# Altium footprint library PcbLib1.PcbLib: 14 footprints
Each footprint in its own frame and in the unit in brackets; x right, y up, seen from the top. Pads: shape width x height; smd on the part's side, far side on the other; paste and mask are expansions set on the pad; w line width, h text height; cw(c..) or ccw(c..) is an arc to the next point about the centre after c.
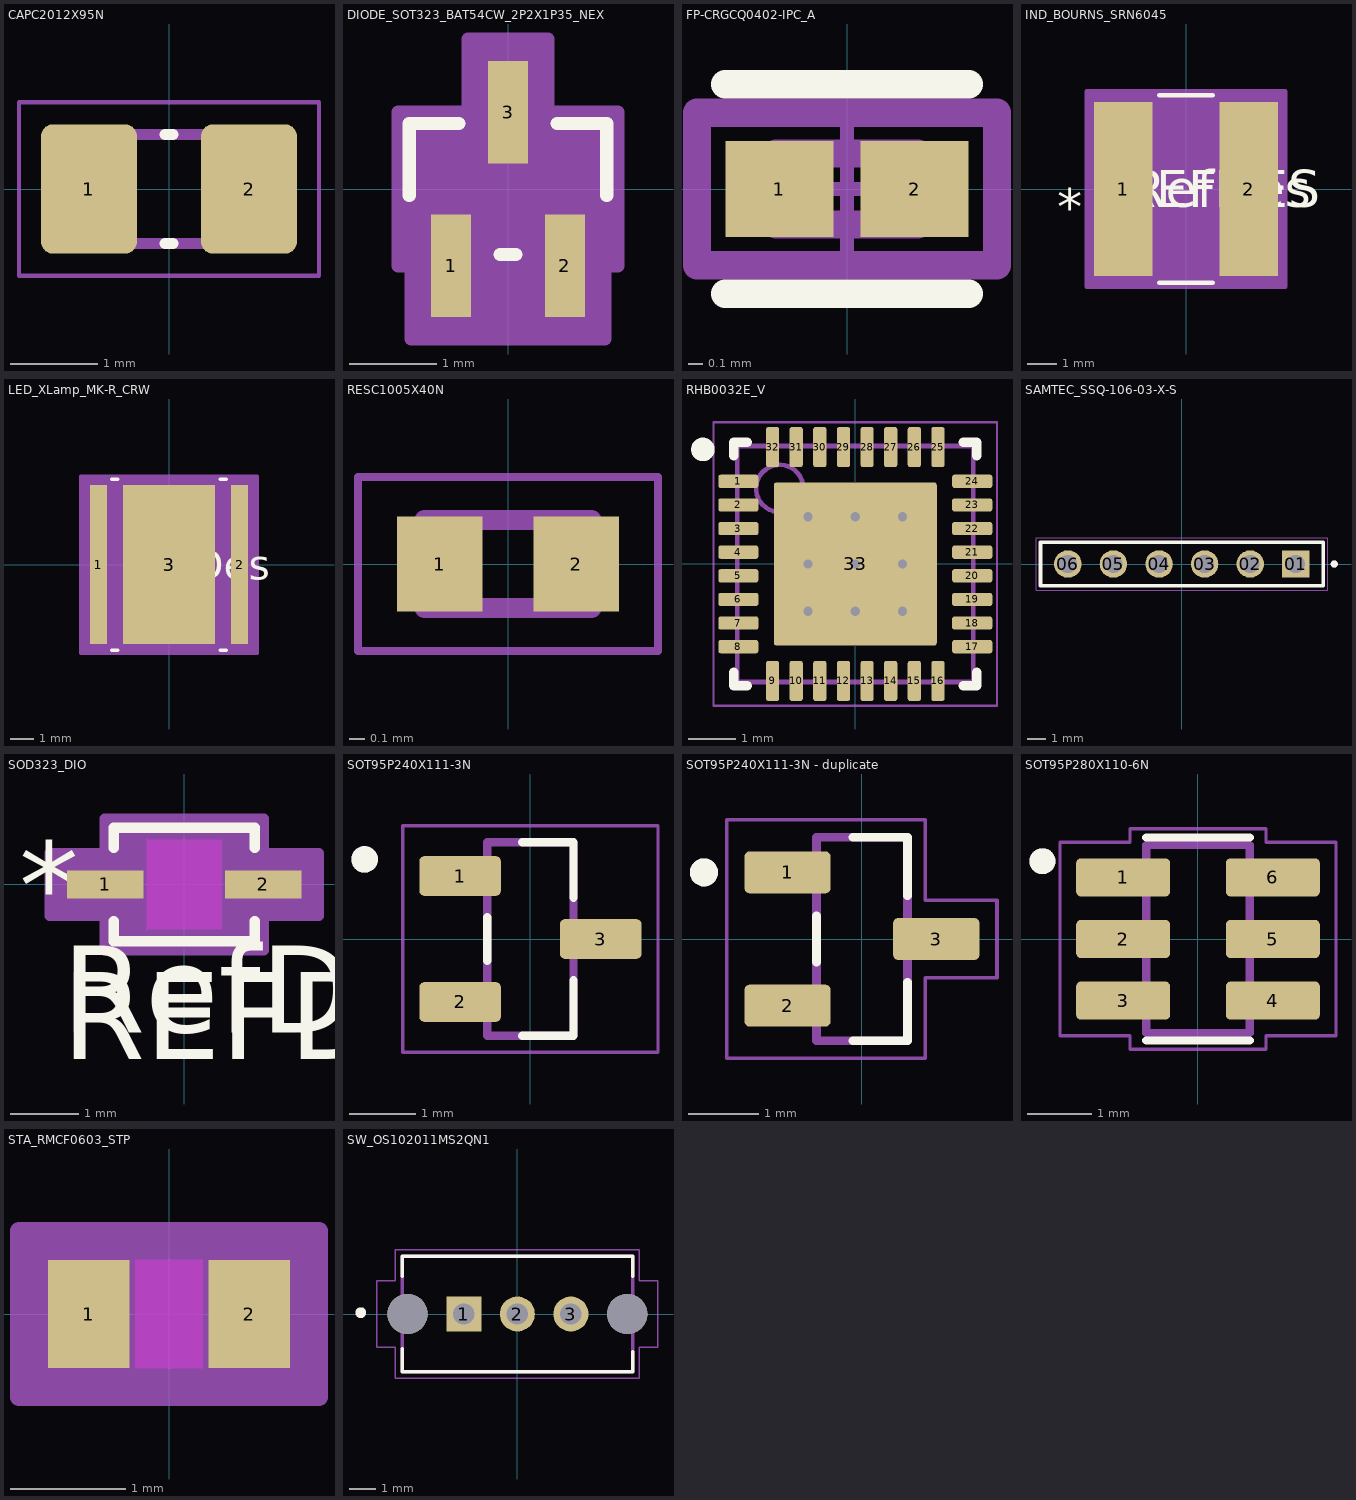
[diagram p0: the footprints below, top view; thin cyan lines are the x and y axes]

## CAPC2012X95N [mm]
height 0.95
pads (2):
  rrect25% 1.1x1.48 smd: 1(-0.915,0) 2(0.915,0)
Top Overlay:
  lines w0.127: -0.045,-0.625 0.045,-0.625 ; -0.045,0.625 0.045,0.625
Mechanical 13:
  lines w0.127: -1,-0.625 1,-0.625 1,0.625 -1,0.625 -1,-0.625
Mechanical 15:
  lines w0.05: -1.715,-0.99 1.715,-0.99 1.715,0.99 -1.715,0.99 -1.715,-0.99

## DIODE_SOT323_BAT54CW_2P2X1P35_NEX [mil]
pads (3):
  rect 18x46 smd paste+0 mask+0: 1(-25.59,-34.5) 2(25.59,-34.5) 3(0,34.5)
Top Overlay:
  lines w6: -44.5,-2.93 -44.5,29.5 -22.1,29.5 ; -3.49,-29.5 3.49,-29.5 ; 22.1,29.5 44.5,29.5 44.5,-2.93
Mechanical 13:
  lines w1: -39.5,-24.5 39.5,-24.5 39.5,24.5 -39.5,24.5 -39.5,-24.5 ; -33.59,-43.5 -33.59,-24.5 -17.59,-24.5 -17.59,-43.5 -33.59,-43.5 ; -8,24.5 8,24.5 8,43.5 -8,43.5 -8,24.5 ; 17.59,-43.5 17.59,-24.5 33.59,-24.5 33.59,-43.5 17.59,-43.5
Mechanical 15:
  region: -49.5,-34.5 -49.5,34.5 -18,34.5 -18,67.5 18,67.5 18,34.5 49.5,34.5 49.5,-34.5 43.59,-34.5 43.59,-67.5 -43.59,-67.5 -43.59,-34.5
  lines w6: -49.5,-34.5 -49.5,34.5 -18,34.5 -18,67.5 18,67.5 18,34.5 49.5,34.5 49.5,-34.5 43.59,-34.5 43.59,-67.5 -43.59,-67.5 -43.59,-34.5 -49.5,-34.5
3D body "DIODE_SOT323_BAT54CW_2P2X1P35_NEX.step": height 43.11, standoff 0, extent -39.49,-43.5 39.49,43.5

## FP-CRGCQ0402-IPC_A [mm]
pads (2):
  rect 0.76x0.672 smd paste+0 mask+0: 1(-0.476,0) 2(0.476,0)
Top Overlay:
  lines w0.2: -0.856,-0.736 0.856,-0.736 ; -0.856,0.736 0.856,0.736
Top 3D Body:
  lines w0.2: -0.5,-0.25 0.5,-0.25 0.5,0.25 -0.5,0.25 -0.5,-0.25
Top Courtyard:
  lines w0.2: -1.056,-0.536 1.056,-0.536 1.056,0.536 -1.056,0.536 -1.056,-0.536
Top Assembly:
  lines w0.2: -1.056,-0.536 1.056,-0.536 1.056,0.536 -1.056,0.536 -1.056,-0.536
  text ".Designator" at 0,0.187 h1
Top Component Center:
  lines w0.1: -0.5,0 0.5,0 ; 0,-0.5 0,0.5
3D body "Res_TE_Connectivity_CRGCQ0402F10R_eec.STEP": height 0.25, standoff 0, extent -1.056,-0.536 1.056,0.536

## IND_BOURNS_SRN6045 [mil]
pads (2):
  rect 79x236 smd paste+0 mask+0: 1(-85,0) 2(85,0)
Top Overlay:
  lines w6: -35.98,-127 35.98,-127 ; -35.98,127 35.98,127
  text "*" at -174.5,-50 h50
  text "RefDes" at -75,-25 h50
  text "REFDES" at -87.5,-25 h50
Mechanical 13:
  lines w1: -122,-61 -122,61 -61,122 61,122 122,61 122,-61 61,-122 -61,-122 -122,-61
  text "*" at -114.5,-50 h50
  text "RefDes2" at -87.5,-25 h50
Mechanical 15:
  region: 134.5,-132 -134.5,-132 -134.5,132 134.5,132
  lines w6: -134.5,-132 -134.5,132 134.5,132 134.5,-132 -134.5,-132

## LED_XLamp_MK-R_CRW [mil]
pads (3):
  rect 28x266 smd paste+0 mask+0: 1(-118,0) 2(118,0)
  rect 154x266 smd paste+0 mask+0: 3(0,0)
Top Overlay:
  lines w6: -95.54,-143 -85.46,-143 ; -95.54,143 -85.46,143 ; 85.46,-143 95.54,-143 ; 85.46,143 95.54,143
  text "RefDes" at -75,-25 h50
Top Paste:
  region: 73.06,-83.74 29.6,-83.74 29.6,-129.06 73.06,-129.06
  region: 73.06,-30.54 29.6,-30.54 29.6,-75.86 73.06,-75.86
  region: 73.06,22.66 29.6,22.66 29.6,-22.66 73.06,-22.66
  region: 73.06,75.86 29.6,75.86 29.6,30.54 73.06,30.54
  region: 73.06,129.06 29.6,129.06 29.6,83.74 73.06,83.74
  region: 21.73,-83.74 -21.73,-83.74 -21.73,-129.06 21.73,-129.06
  region: 21.73,-30.54 -21.73,-30.54 -21.73,-75.86 21.73,-75.86
  region: 21.73,22.66 -21.73,22.66 -21.73,-22.66 21.73,-22.66
  region: 21.73,75.86 -21.73,75.86 -21.73,30.54 21.73,30.54
  region: 21.73,129.06 -21.73,129.06 -21.73,83.74 21.73,83.74
  region: -29.6,-83.74 -73.06,-83.74 -73.06,-129.06 -29.6,-129.06
  region: -29.6,-30.54 -73.06,-30.54 -73.06,-75.86 -29.6,-75.86
  region: -29.6,22.66 -73.06,22.66 -73.06,-22.66 -29.6,-22.66
  region: -29.6,75.86 -73.06,75.86 -73.06,30.54 -29.6,30.54
  region: -29.6,129.06 -73.06,129.06 -73.06,83.74 -29.6,83.74
Mechanical 13:
  circle w0: c-104,0 r3
  lines w0: -12,138 ccw(c0,138) 12,138
  lines w1: -138,-138 -138,138 138,138 138,-138 -138,-138
Mechanical 15:
  region: -148,-143 -148,143 -148,148 148,148 148,143 148,-143 148,-148 -148,-148
  lines w6: -148,-148 148,-148 148,-143 148,143 148,148 -148,148 -148,143 -148,-143 -148,-148
3D body "LED_XLamp_MK-R_CRW.step": height 161.1, standoff 0, extent -137.99,-137.99 137.99,137.99

## RESC1005X40N [mm]
pads (2):
  rect 0.54x0.6 smd: 1(-0.432,0) 2(0.432,0)
Mechanical 13:
  lines w0.127: -0.53,-0.28 -0.53,0.28 0.53,0.28 0.53,-0.28 -0.53,-0.28
Mechanical 15:
  lines w0.05: -0.95,-0.55 -0.95,0.55 0.95,0.55 0.95,-0.55 -0.95,-0.55

## RHB0032E_V [mm] "QFN, 32-Leads, Body 5x5mm, Pitch 0.5mm, Thermal Pad 3.45x3.45mm"
height 1
pads (33):
  rrect36% 0.85x0.28 smd: 1(-2.475,1.75) 2(-2.475,1.25) 3(-2.475,0.75) 4(-2.475,0.25) 5(-2.475,-0.25) 6(-2.475,-0.75) 7(-2.475,-1.25) 8(-2.475,-1.75) 17(2.475,-1.75) 18(2.475,-1.25) 19(2.475,-0.75) 20(2.475,-0.25) 21(2.475,0.25) 22(2.475,0.75) 23(2.475,1.25) 24(2.475,1.75)
  rrect36% 0.28x0.85 smd: 9(-1.75,-2.475) 10(-1.25,-2.475) 11(-0.75,-2.475) 12(-0.25,-2.475) 13(0.25,-2.475) 14(0.75,-2.475) 15(1.25,-2.475) 16(1.75,-2.475) 25(1.75,2.475) 26(1.25,2.475) 27(0.75,2.475) 28(0.25,2.475) 29(-0.25,2.475) 30(-0.75,2.475) 31(-1.25,2.475) 32(-1.75,2.475)
  rrect3% 3.45x3.45 smd: 33(0,0)
via 1,-1 diameter 0.5 hole 0.2
via 0,-1 diameter 0.5 hole 0.2
via -1,-1 diameter 0.5 hole 0.2
via 1,0 diameter 0.5 hole 0.2
via 0,0 diameter 0.5 hole 0.2
via -1,0 diameter 0.5 hole 0.2
via 1,1 diameter 0.5 hole 0.2
via 0,1 diameter 0.5 hole 0.2
via -1,1 diameter 0.5 hole 0.2
Top Overlay:
  circle w0.25: c-3.225,2.425 r0.125
  lines w0.2: -2.575,-2.29 -2.575,-2.575 -2.29,-2.575 ; -2.575,2.29 -2.575,2.575 -2.29,2.575 ; 2.29,-2.575 2.575,-2.575 2.575,-2.29 ; 2.29,2.575 2.575,2.575 2.575,2.29
Mechanical 1:
  text ".Designator" at -1.524,-0.508 h1.02
Mechanical 13:
  circle w0.1: c-1.6,1.6 r0.5
  lines w0.1: -2.5,-2.5 2.5,-2.5 2.5,2.5 -2.5,2.5 -2.5,-2.5
Mechanical 15:
  lines w0.05: -3,-3 3,-3 3,3 -3,3 -3,-3
  lines w0.1: -0.5,0 0.5,0 ; 0,-0.5 0,0.5
3D body: height 1, standoff 0, extent -2.5,-2.5 2.5,2.5

## SAMTEC_SSQ-106-03-X-S [mm]
height 8.51
pads (6):
  rect 1.53x1.53 / inner round 1.53 / far side rect 1.53x1.53 hole 1.02: 01(6.35,0)
  round 1.53 hole 1.02: 02(3.81,0) 03(1.27,0) 04(-1.27,0) 05(-3.81,0) 06(-6.35,0)
Top Overlay:
  circle w0.2: c8.49,0 r0.1
  lines w0.2: -7.875,-1.205 7.875,-1.205 7.875,1.205 -7.875,1.205 -7.875,-1.205
Mechanical 13:
  circle w0.2: c8.49,0 r0.1
  lines w0.1: -7.875,-1.205 7.875,-1.205 7.875,1.205 -7.875,1.205 -7.875,-1.205
Mechanical 15:
  lines w0.05: -8.125,-1.455 8.125,-1.455 8.125,1.455 -8.125,1.455 -8.125,-1.455

## SOD323_DIO [mm]
pads (2):
  rect 1.111x0.401 smd paste+0 mask+0: 1(-1.15,0) 2(1.15,0)
Top Overlay:
  lines w0.152: -1.027,-0.533 -1.027,-0.827 1.027,-0.827 1.027,-0.533 ; -1.027,0.533 -1.027,0.827 1.027,0.827 1.027,0.533
  text "REFDES" at -1.778,-2.54 h1.27
  text "*" at -2.404,-0.635 h1.27
  text "RefDes" at -1.778,-2.159 h1.27
Keep-Out Layer:
  region: -0.544,-0.649 -0.544,0.649 0.544,0.649 0.544,-0.649
Mechanical 13:
  lines w0.025: -0.9,-0.35 -0.55,-0.7 ; -0.9,0.35 -0.55,0.7 ; -1.35,-0.175 -1.35,0.175 -0.9,0.175 -0.9,-0.175 -1.35,-0.175 ; -0.9,-0.7 0.9,-0.7 0.9,0.7 -0.9,0.7 -0.9,-0.7 ; 0.9,-0.175 0.9,0.175 1.35,0.175 1.35,-0.175 0.9,-0.175
  text "*" at -0.964,-0.635 h1.27
  text "RefDes2" at -2.159,-3.048 h1.27
Mechanical 15:
  region: -1.154,-0.454 -1.96,-0.454 -1.96,0.454 -1.154,0.454 -1.154,0.954 1.154,0.954 1.154,0.454 1.96,0.454 1.96,-0.454 1.154,-0.454 1.154,-0.954 -1.154,-0.954
  lines w0.152: -1.96,-0.454 -1.96,0.454 -1.154,0.454 -1.154,0.954 1.154,0.954 1.154,0.454 1.96,0.454 1.96,-0.454 1.154,-0.454 1.154,-0.954 -1.154,-0.954 -1.154,-0.454 -1.96,-0.454
3D body "SOD323_DIO.step": height 0.81, standoff 0, extent -1.35,-0.7 1.35,0.7

## SOT95P240X111-3N [mm]
height 1.11
pads (3):
  rrect25% 1.23x0.6 smd: 1(-1.06,0.95) 2(-1.06,-0.95) 3(1.06,0)
Top Overlay:
  circle w0.2: c-2.5,1.2 r0.1
  lines w0.127: -0.65,-0.33 -0.65,0.33 ; -0.125,-1.46 0.65,-1.46 0.65,-0.62 ; -0.125,1.46 0.65,1.46 0.65,0.62
Mechanical 13:
  circle w0.2: c-2.5,1.2 r0.1
  lines w0.127: -0.65,-1.46 0.65,-1.46 0.65,1.46 -0.65,1.46 -0.65,-1.46
Mechanical 15:
  lines w0.05: -1.925,-1.71 -1.925,1.71 1.925,1.71 1.925,-1.71 -1.925,-1.71
3D body "step_temp.STEP": height 1.3, standoff 0, extent -1.3,-1.525 1.3,1.515

## SOT95P240X111-3N - duplicate [mm]
height 1.11
pads (3):
  rrect25% 1.23x0.6 smd: 1(-1.06,0.95) 2(-1.06,-0.95) 3(1.06,0)
Top Overlay:
  circle w0.2: c-2.25,0.95 r0.1
  lines w0.127: -0.65,-0.33 -0.65,0.33 ; -0.125,-1.45 0.65,-1.45 0.65,-0.62 ; -0.125,1.45 0.65,1.45 0.65,0.62
Mechanical 13:
  circle w0.2: c-2.25,0.95 r0.1
  lines w0.127: -0.65,-1.45 0.65,-1.45 0.65,1.45 -0.65,1.45 -0.65,-1.45
Mechanical 15:
  lines w0.05: -1.925,-1.7 -1.925,1.7 0.9,1.7 0.9,0.55 1.925,0.55 1.925,-0.55 0.9,-0.55 0.9,-1.7 -1.925,-1.7
3D body "step_temp.STEP": height 1.11, standoff 0, extent -1.2,-1.45 1.2,1.45

## SOT95P280X110-6N [mm]
pads (6):
  rrect25% 1.45x0.59 smd: 1(-1.155,0.95) 2(-1.155,0) 3(-1.155,-0.95) 4(1.155,-0.95) 5(1.155,0) 6(1.155,0.95)
Top Overlay:
  circle w0.2: c-2.4,1.2 r0.1
  lines w0.127: -0.8,-1.565 0.8,-1.565 ; -0.8,1.565 0.8,1.565
Mechanical 13:
  circle w0.2: c-2.4,1.2 r0.1
  lines w0.127: -0.8,-1.45 0.8,-1.45 0.8,1.45 -0.8,1.45 -0.8,-1.45
Mechanical 15:
  lines w0.05: -2.13,-1.495 -1.05,-1.495 -1.05,-1.7 1.05,-1.7 1.05,-1.495 2.13,-1.495 2.13,1.495 1.05,1.495 1.05,1.7 -1.05,1.7 -1.05,1.495 -2.13,1.495 -2.13,-1.495
3D body "step_temp.STEP": height 1.1, standoff 0, extent -1.4,-1.45 1.4,1.45

## STA_RMCF0603_STP [mil]
pads (2):
  rect 27.87x37 smd paste+0 mask+0: 1(-27.44,0) 2(27.44,0)
Top Layer keep-out:
  region: -11.5,-16.5 -11.5,16.5 11.5,16.5 11.5,-16.5
Top Overlay:
  text ".Designator" at -137.5,-25 h50
Keep-Out Layer:
  region: -11.5,-18.5 -11.5,18.5 11.5,18.5 11.5,-18.5
Mechanical 13:
  lines w1: -33.5,-18.5 -33.5,18.5 ; -33.5,-18.5 33.5,-18.5 ; -33.5,-18.5 -13.5,-18.5 -13.5,18.5 -33.5,18.5 ; -33.5,-18.5 -33.5,18.5 ; -33.5,18.5 33.5,18.5 ; 33.5,-18.5 33.5,18.5 ; 33.5,-18.5 33.5,18.5 ; 33.5,-18.5 13.5,-18.5 13.5,18.5 33.5,18.5
  text ".Designator" at -137.5,-25 h50
Mechanical 15:
  region: 51.37,-28.5 -51.37,-28.5 -51.37,28.5 51.37,28.5
  lines w6: -51.37,-28.5 51.37,-28.5 51.37,28.5 -51.37,28.5 -51.37,-28.5
3D body "STA_RMCF0603_STP.step": height 22.01, standoff 0, extent -33.5,-18.5 33.5,18.5

## SW_OS102011MS2QN1 [mm]
pads (5):
  rect 1.308x1.308 / inner round 1.308 / far side rect 1.308x1.308 hole 0.8: 1(-2,0)
  round 1.308 hole 0.8: 2(0,0) 3(2,0)
  round 1.5 hole 1.5 unplated: ""(-4.1,0) ""(4.1,0)
Top Overlay:
  circle w0.2: c-5.85,0.05 r0.1
  lines w0.127: -4.3,-1.3 -4.3,-2.15 4.3,-2.15 4.3,-1.4 ; -4.3,1.4 -4.3,2.15 4.3,2.15 4.3,1.4
Mechanical 13:
  circle w0.2: c-2.1,0.05 r0.1
  lines w0.127: -4.3,-2.15 4.3,-2.15 4.3,2.15 -4.3,2.15 -4.3,-2.15
Mechanical 15:
  lines w0.05: -5.25,-1.25 -4.55,-1.25 -4.55,-2.4 4.55,-2.4 4.55,-1.25 5.25,-1.25 5.25,1.25 4.55,1.25 4.55,2.4 -4.55,2.4 -4.55,1.25 -5.25,1.25 -5.25,-1.25
3D body "step_temp.STEP": height 4.4, standoff -7.1, extent -4.3,-2.15 4.3,2.15